# Altium schematic symbol library RCG080510R0FKEA.SchLib: 2 symbols
Pins are listed as number, name and electrical type; pins without a type are passive.

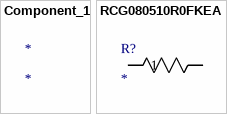
[diagram p0: symbols Component_1 to RCG080510R0FKEA]

## Component_1
designator *

## RCG080510R0FKEA
designator R?
No Description Available; Mfr_Name: Vishay
footprint 0805_VIS
pins: 1, 2